# Altium footprint library THAIEASYFOOTPRINT_090120_AD2006.PcbLib: 57 footprints (part 1 of 4)
Each footprint in its own frame and in the unit in brackets; x right, y up, seen from the top. Pads: shape width x height; smd on the part's side, far side on the other; paste and mask are expansions set on the pad; w line width, h text height; cw(c..) or ccw(c..) is an arc to the next point about the centre after c.
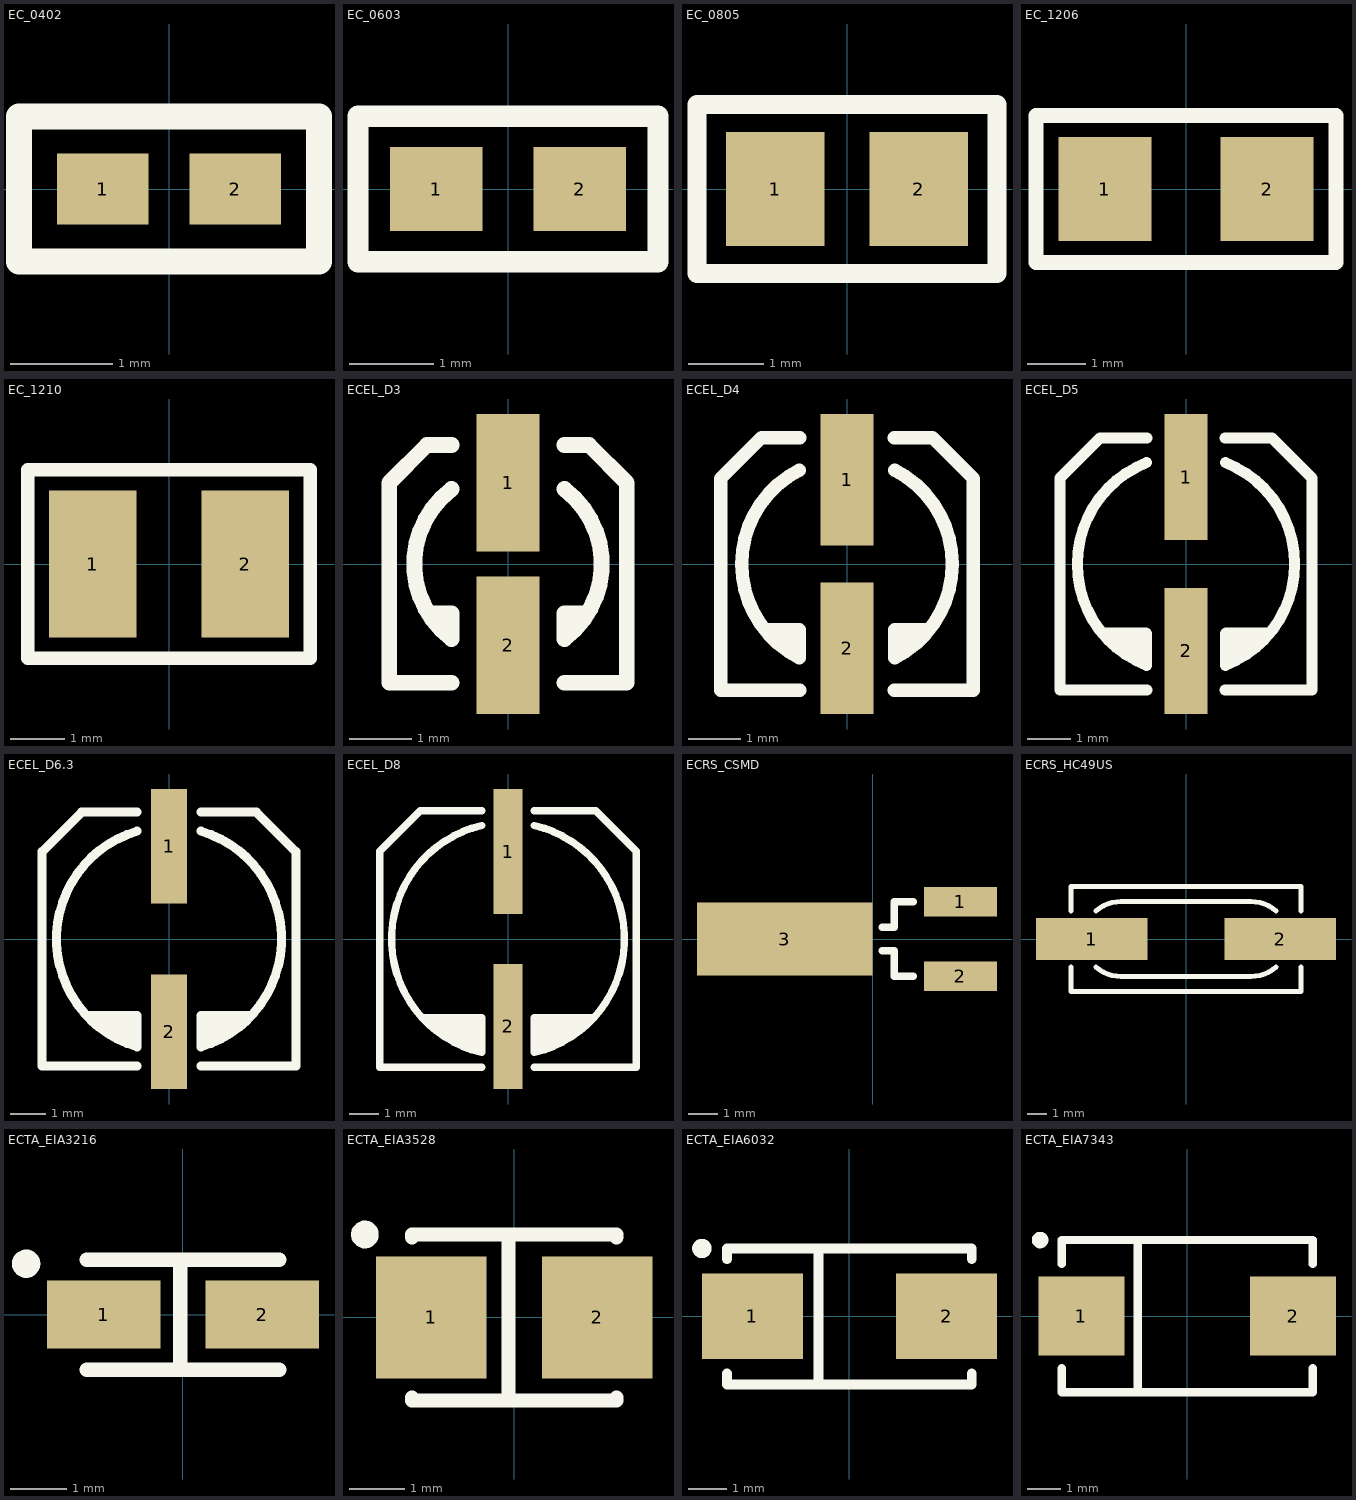
[diagram p0: the footprints below, top view; thin cyan lines are the x and y axes]

## EC_0402 [mm] "Chip Capacitor; Body 1.1 x 0.5 mm (LxW typ)"
height 0.4
pads (2):
  rect 0.9x0.7 smd: 1(-0.65,0) 2(0.65,0)
Top Overlay:
  lines w0.254: -1.473,-0.711 1.473,-0.711 1.473,0.711 -1.473,0.711 -1.473,-0.711

## EC_0603 [mm] "Chip Capacitor; Body 1.6 x 0.8 mm (LxW typ)"
height 0.6
pads (2):
  rect 1.1x1 smd: 1(-0.85,0) 2(0.85,0)
Top Overlay:
  lines w0.254: -1.778,-0.864 -1.778,0.864 1.778,0.864 1.778,-0.864 -1.778,-0.864

## EC_0805 [mm] "Chip Capacitor; Body 2.0 x 1.3 mm (LxW typ)"
height 0.65
pads (2):
  rect 1.3x1.5 smd: 1(-0.95,0) 2(0.95,0)
Top Overlay:
  lines w0.254: -1.981,-1.118 -1.981,1.118 1.981,1.118 1.981,-1.118 -1.981,-1.118

## EC_1206 [mm] "Chip Capacitor; Body 3.2 x 1.6 mm (LxW typ)"
height 0.71
pads (2):
  rect 1.6x1.8 smd: 1(-1.4,0) 2(1.4,0)
Top Overlay:
  lines w0.254: -2.591,-1.27 -2.591,1.27 2.591,1.27 2.591,-1.27 -2.591,-1.27

## EC_1210 [mm] "Chip Capacitor; Body 3.2 x 2.5 mm (LxW typ)"
height 0.71
pads (2):
  rect 1.6x2.7 smd: 1(-1.4,0) 2(1.4,0)
Top Overlay:
  lines w0.254: -2.591,-1.727 -2.591,1.727 2.591,1.727 2.591,-1.727 -2.591,-1.727

## ECEL_D3 [mm] "CAP ELECT 3MM DIAMETER"
height 5.5
pads (2):
  rect 1x2.2 smd: 1(0,1.3) 2(0,-1.3)
Top Overlay:
  lines w0.254: -1.245,-0.787 -0.9,-0.787 ; -0.903,-0.79 -0.903,-1.198 cw(c0,0) -0.903,1.198 ; -0.9,-1.9 -1.9,-1.9 -1.9,-0.274 -1.9,1.3 -1.295,1.905 -0.9,1.905 ; 0.9,-1.9 1.9,-1.9 1.9,-0.274 1.9,1.3 1.295,1.905 0.9,1.905 ; 0.9,-0.787 1.245,-0.787 ; 0.903,-0.79 0.903,-1.198 ccw(c0,0) 0.903,1.198

## ECEL_D4 [mm] "CAP ELECT 4MM DIAMETER"
height 5.5
pads (2):
  rect 1x2.5 smd: 1(0,1.6) 2(0,-1.6)
Top Overlay:
  lines w0.254: -1.55,-1.25 -0.908,-1.25 -0.908,-1.782 cw(c0,0) -0.908,1.782 ; -1.325,-1.475 -0.908,-1.475 ; -0.9,-2.4 -2.4,-2.4 -2.4,-0.413 -2.4,1.626 -1.626,2.4 -0.9,2.4 ; 0.9,-2.4 2.4,-2.4 2.4,-0.413 2.4,1.626 1.626,2.4 0.9,2.4 ; 0.908,-1.475 1.325,-1.475 ; 0.908,1.782 cw(c0,0) 0.908,-1.782 0.908,-1.25 1.55,-1.25

## ECEL_D5 [mm] "CAP ELECT 5MM DIAMETER"
height 5.5
pads (2):
  rect 1x2.9 smd: 1(0,2) 2(0,-2)
Top Overlay:
  lines w0.254: -1.906,-1.584 -0.915,-1.584 -0.904,-1.596 -0.904,-2.331 cw(c0,0) -0.904,2.331 ; -1.652,-1.838 -0.904,-1.838 ; -1.373,-2.042 -0.904,-2.042 ; -0.9,-2.9 -2.9,-2.9 -2.9,1.981 -1.981,2.9 -1.956,2.9 -0.9,2.9 ; 0.9,-2.9 2.9,-2.9 2.9,1.981 1.981,2.9 1.956,2.9 0.9,2.9 ; 0.904,-2.042 1.373,-2.042 ; 0.904,-1.838 1.652,-1.838 ; 0.904,2.331 cw(c0,0) 0.904,-2.331 0.904,-1.596 0.915,-1.584 1.906,-1.584

## ECEL_D6.3 [mm] "CAP ELECT 6.3 DIAMETER"
height 5.5
pads (2):
  rect 1x3.2 smd: 1(0,2.6) 2(0,-2.6)
Top Overlay:
  lines w0.254: -2.306,-2.139 -0.895,-2.139 -0.895,-3.02 cw(c0,0) -0.895,3.02 ; -2.032,-2.388 -0.895,-2.388 ; -1.753,-2.616 -0.895,-2.616 ; -1.372,-2.819 -0.895,-2.819 ; -0.9,-3.55 -3.55,-3.55 -3.55,2.444 -2.444,3.55 -0.9,3.55 ; 0.895,-2.819 1.372,-2.819 ; 0.895,-2.616 1.753,-2.616 ; 0.895,-2.388 2.032,-2.388 ; 0.895,3.02 cw(c0,0) 0.895,-3.02 0.895,-2.139 2.306,-2.139 ; 0.9,-3.55 3.55,-3.55 3.55,2.444 2.444,3.55 0.9,3.55

## ECEL_D8 [mm] "CAP ELECT 8MM DIAMETER"
height 5.5
pads (2):
  rect 1x4.3 smd: 1(0,3) 2(0,-3)
Top Overlay:
  lines w0.254: -3.017,4.4 -0.9,4.4 ; -3.017,4.4 -4.4,3.017 -4.4,-4.4 -0.9,-4.4 ; -2.946,-2.703 -0.906,-2.703 -0.9,-2.709 -0.9,-3.897 cw(c0,0) -0.9,3.897 ; -2.71,-2.931 -0.9,-2.931 ; -2.456,-3.16 -0.9,-3.16 ; -2.1,-3.388 -0.9,-3.388 ; -1.676,-3.617 -0.9,-3.617 ; 0.9,-4.4 4.4,-4.4 4.4,3.017 3.017,4.4 ; 0.9,-3.617 1.676,-3.617 ; 0.9,-3.388 2.1,-3.388 ; 0.9,-3.16 2.456,-3.16 ; 0.9,-2.931 2.71,-2.931 ; 0.9,3.897 cw(c0,0) 0.9,-3.897 0.9,-2.709 0.906,-2.703 2.946,-2.703 ; 0.9,4.4 3.017,4.4

## ECRS_CSMD [mm] "SURFACE MOUNT CYLINDER TYPE CRYSTAL"
height 1.9
pads (3):
  rect 2.5x1 smd: 1(3,1.27) 2(3,-1.27)
  rect 6x2.5 smd: 3(-3,0)
Top Overlay:
  lines w0.254: 0.33,-0.406 0.737,-0.406 0.737,-1.245 ; 0.33,0.406 0.737,0.406 0.737,1.245 ; 0.737,-1.27 1.397,-1.27 ; 0.737,1.27 1.397,1.27

## ECRS_HC49US [mm] "LOW PROFILE SMD CRYSTAL"
height 4.2
pads (2):
  rect 5.6x2.1 smd: 1(-4.75,0) 2(4.75,0)
Top Overlay:
  lines w0.254: -5.78,-1.408 -5.78,-2.65 5.78,-2.65 5.78,-1.408 ; -5.78,1.408 -5.78,2.65 5.78,2.65 5.78,1.408 ; -4.539,-1.402 ccw(c-3.277,0) -3.277,-1.886 3.277,-1.886 ccw(c3.277,0) 4.539,-1.402 ; -4.539,1.402 cw(c-3.277,0) -3.277,1.886 3.277,1.886 cw(c3.277,0) 4.539,1.402

## ECTA_EIA3216 [mm] "Capacitor, SM Tantalum; Body 3.2 x 1.6 mm (LxW typ)"
height 2.2
pads (2):
  rect 2x1.2 smd: 1(-1.4,0) 2(1.4,0)
Top Overlay:
  circle w0.25: c-2.767,0.9 r0.125
  lines w0.254: -1.7,-0.97 1.7,-0.97 ; -1.7,0.97 1.7,0.97 ; -0.051,-0.97 -0.051,0.97

## ECTA_EIA3528 [mm] "Capacitor, SM Tantalum; Body 3.5 x 2.8 mm (LxW typ)"
height 2.5
pads (2):
  rect 2x2.2 smd: 1(-1.5,0) 2(1.5,0)
Top Overlay:
  circle w0.25: c-2.7,1.5 r0.125
  lines w0.254: -1.85,-1.45 -1.85,-1.5 1.85,-1.5 1.85,-1.45 ; -1.85,1.45 -1.85,1.5 1.85,1.5 1.85,1.45 ; -0.102,-1.475 -0.102,1.5

## ECTA_EIA6032 [mm] "Capacitor, SM Tantalum; Body 6.0 x 3.2 mm (LxW typ)"
height 3.4
pads (2):
  rect 2.6x2.2 smd: 1(-2.5,0) 2(2.5,0)
Top Overlay:
  circle w0.25: c-3.8,1.75 r0.125
  lines w0.254: -3.15,-1.473 -3.15,-1.75 3.15,-1.75 3.15,-1.473 ; -3.15,1.473 -3.15,1.75 3.15,1.75 3.15,1.473 ; -0.8,-1.75 -0.8,1.75

## ECTA_EIA7343 [mm] "Capacitor, SM Tantalum; Body 7.3 x 4.3 mm (LxW typ)"
height 3.7
pads (2):
  rect 2.6x2.4 smd: 1(-3.2,0) 2(3.2,0)
Top Overlay:
  circle w0.25: c-4.45,2.3 r0.125
  lines w0.254: -3.8,-1.575 -3.8,-2.3 3.796,-2.3 3.8,-2.296 3.8,-1.575 ; -3.8,1.575 -3.8,2.296 -3.796,2.3 3.796,2.3 3.8,2.296 3.8,1.575 ; -1.5,-2.3 -1.5,2.3